# EAGLE library part V2_BOARD_60PIN (library Artemis v2 board)
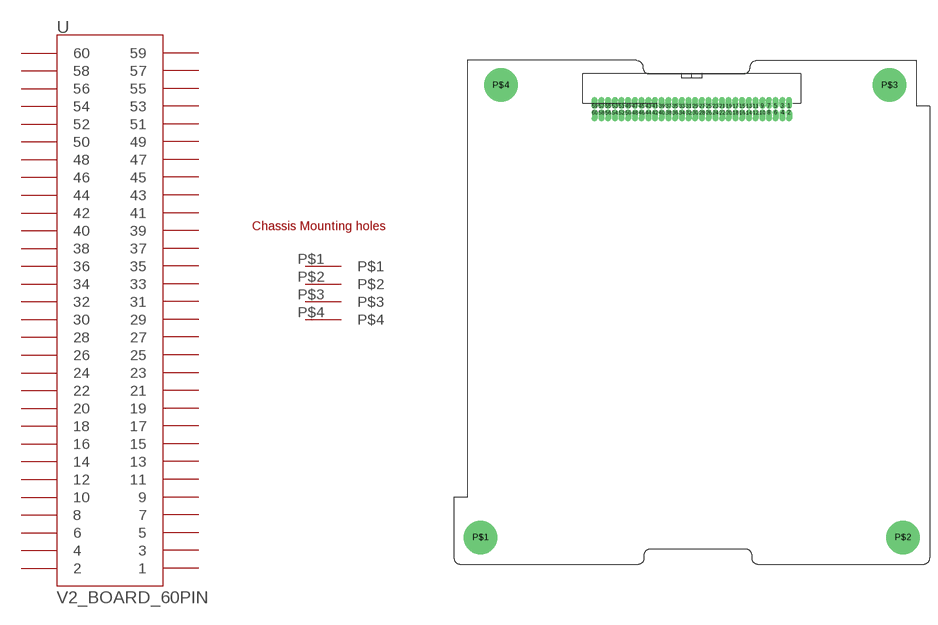
[diagram p0: symbol with the pads of PC104_WCONN_BACKPLANE_HEADER; footprint PC104_WCONN_BACKPLANE_HEADER]

Designator prefix -

## V2_BOARD_60PIN  [PC104_WCONN_BACKPLANE_HEADER]
1  1
2  2
3  3
4  4
5  5
6  6
7  7
8  8
9  9
10  10
11  11
12  12
13  13
14  14
15  15
16  16
17  17
18  18
19  19
20  20
21  21
22  22
23  23
24  24
25  25
26  26
27  27
28  28
29  29
30  30
31  31
32  32
33  33
34  34
35  35
36  36
37  37
38  38
39  39
40  40
41  41
42  42
43  43
44  44
45  45
46  46
47  47
48  48
49  49
50  50
51  51
52  52
53  53
54  54
55  55
56  56
57  57
58  58
59  59
60  60
P$1  P$1
P$2  P$2
P$3  P$3
P$4  P$4

## Footprint PC104_WCONN_BACKPLANE_HEADER (pad centres in mm)
drill 0.635 pad 0.965 offset: 1 63.489,86.884; 2 63.489,85.614; 3 62.219,86.884; 4 62.219,85.614; 5 60.949,86.884; 6 60.949,85.614; 7 59.679,86.884; 8 59.679,85.614; 9 58.409,86.884; 10 58.409,85.614; 11 57.139,86.884; 12 57.139,85.614; 13 55.869,86.884; 14 55.869,85.614; 15 54.599,86.884; 16 54.599,85.614; 17 53.329,86.884; 18 53.329,85.614; 19 52.059,86.884; 20 52.059,85.614; 21 50.789,86.884; 22 50.789,85.614; 23 49.519,86.884; 24 49.519,85.614; 25 48.249,86.884; 26 48.249,85.614; 27 46.979,86.884; 28 46.979,85.614; 29 45.709,86.884; 30 45.709,85.614; 31 44.439,86.884; 32 44.439,85.614; 33 43.169,86.884; 34 43.169,85.614; 35 41.899,86.884; 36 41.899,85.614; 37 40.629,86.884; 38 40.629,85.614; 39 39.359,86.884; 40 39.359,85.614; 41 38.089,86.884; 42 38.089,85.614; 43 36.819,86.884; 44 36.819,85.614; 45 35.549,86.884; 46 35.549,85.614; 47 34.279,86.884; 48 34.279,85.614; 49 33.009,86.884; 50 33.009,85.614; 51 31.739,86.884; 52 31.739,85.614; 53 30.469,86.884; 54 30.469,85.614; 55 29.199,86.884; 56 29.199,85.614; 57 27.929,86.884; 58 27.929,85.614; 59 26.659,86.884; 60 26.659,85.614
drill 3.175 pad 6.35: P$1 5.08,5.08; P$2 85.09,5.08; P$3 82.55,90.805; P$4 8.89,90.805